# EAGLE library part 74HC7014 (library logick)
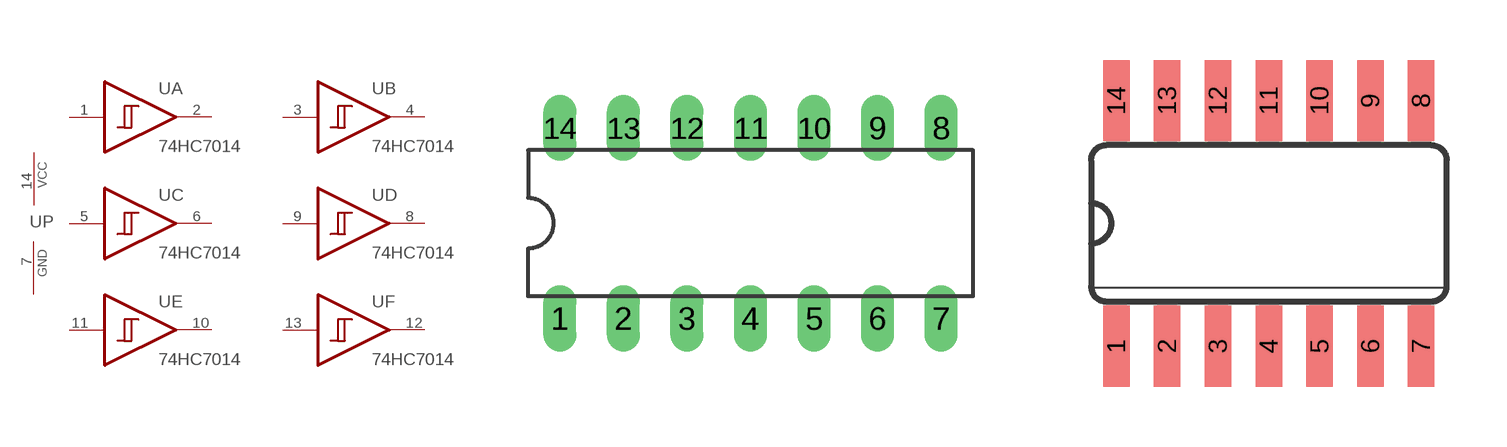
[diagram p0: symbol with the pads of DIL14; footprints DIL14, SO14]

Designator prefix -; gates A=B-ST B=B-ST C=B-ST D=B-ST E=B-ST F=B-ST P=PWRN

## 74HC7014N  [DIL14]
1  A:A  in
2  A:Y  oc
3  B:A  in
4  B:Y  oc
5  C:A  in
6  C:Y  oc
7  P:GND  pwr
8  D:Y  oc
9  D:A  in
10  E:Y  oc
11  E:A  in
12  F:Y  oc
13  F:A  in
14  P:VCC  pwr

## 74HC7014D  [SO14]
Pads as for DIL14

## Footprint DIL14 (pad centres in mm)
drill 0.813 long: 1 -7.62,-3.81; 2 -5.08,-3.81; 3 -2.54,-3.81; 4 0,-3.81; 5 2.54,-3.81; 6 5.08,-3.81; 7 7.62,-3.81; 8 7.62,3.81; 9 5.08,3.81; 10 2.54,3.81; 11 0,3.81; 12 -2.54,3.81; 13 -5.08,3.81; 14 -7.62,3.81

## Footprint SO14 (pad centres in mm)
smd 0.66 x 2.032: 1 -3.81,-3.073; 2 -2.54,-3.073; 3 -1.27,-3.073; 4 0,-3.073; 5 1.27,-3.073; 6 2.54,-3.073; 7 3.81,-3.073; 8 3.81,3.073; 9 2.54,3.073; 10 1.27,3.073; 11 0,3.073; 12 -1.27,3.073; 13 -2.54,3.073; 14 -3.81,3.073